# Altium integrated library Linear Technology Operational Amplifiers (LT1000).IntLib: 2280 symbols (part 45 of 79)
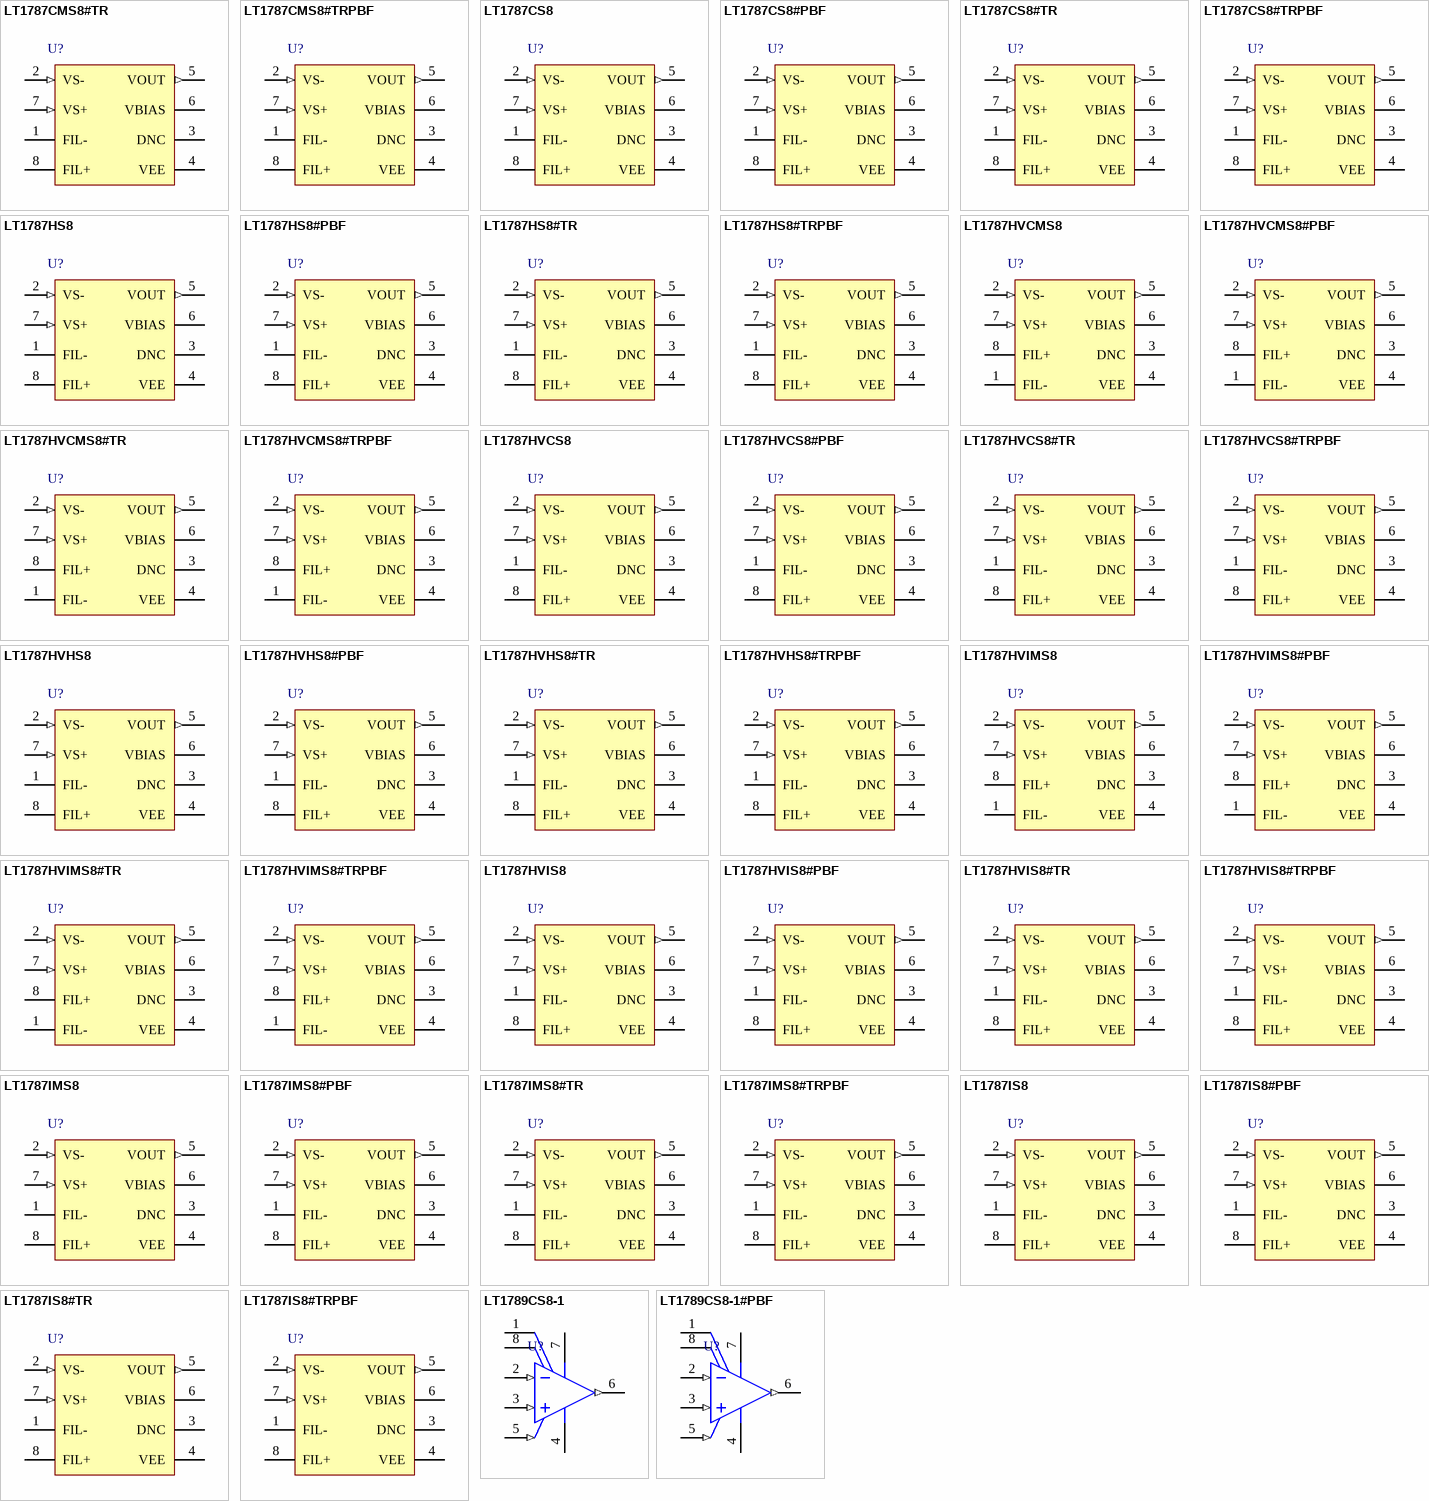
[diagram p149: symbols LT1787CMS8#TR to LT1789CS8-1#PBF]

## LT1787HVIS8#PBF
designator U?
Single Channel, High Side Current Sense, 60 V Supply Operation, Precision Operational Amplifier, 0.115 MHz Typical GBW, 2.5 to 60 V, 8-Pin SOIC (S8-8), Industrial, Pb-Free; Linear Technology Part Number: LT1787HV; Manufacturer: Linear Technology; PartNumber: LT1787HVIS8#PBF; Channels (#): 1; GBW (MHz) Typical: 0.115; Is (mA) Typical: 0.06; Vos (mV) Guaranteed: 0.075; Vos (mV) Typical: 0.04; Vs Max (V): 60; Vs Min (V): 2.5; DatasheetVersion: Rev. C; PackageVersion: Rev G; PackageReference: LT-S8-8; PackageDescription: 8-Pin Plastic Small Outline, Body 4.9 x 3.9 mm, Pitch 1.27 mm; Supplier 1: Digi-Key; Supplier Part Number 1: LT1787HVIS8#PBF-ND; Supplier 2: Farnell; Supplier Part Number 2: 1627568; Supplier 3: Newark; Supplier Part Number 3: 57M6459; RoHS: Pb-Free; Type: CSA; Mounting Technology: Surface Mount; ComponentLink1Description: Manufacturer URL; ComponentLink1URL: http://www.linear.com/; ComponentLink2Description: Datasheet; ComponentLink2URL: http://cds.linear.com/docs/en/datasheet/1787fc.pdf; ComponentLink3Description: Package Specification; ComponentLink3URL: http://cds.linear.com/docs/en/packaging/05081610_G_SO8.pdf
footprint LT-S8-8_N (SOIC, 8-Leads, Body 4.9x3.9mm, Pitch 1.27mm, IPC Medium Density)
footprint LT-S8-8_L (SOIC, 8-Leads, Body 4.9x3.9mm, Pitch 1.27mm, IPC High Density)
footprint LT-S8-8_M (SOIC, 8-Leads, Body 4.9x3.9mm, Pitch 1.27mm, IPC Low Density)
pins: 1 FIL- "Negative and Positive Filter Terminal. Differential mode noise can be filtered by connecting a capacitor across FIL- and FIL+. Pole frequency f-3dB = 1/(2pRC), R = 1.25k ohm.", 2 VS- (in) "Negative Input Sense Terminal. Negative sense voltage will result in an output sinking current proportional to the sense current. VS- is connected to an internal gain-setting resistor RG1A and supplies bias current to the (See Datasheet)", 3 DNC "Do Not Connect. Connected internally. Do not connect external circuitry to this pin.", 4 VEE (power) "Negative Supply or Ground for Single Supply Operation.", 5 VOUT (out) "Voltage Output or Current Output proportional to the magnitude of the sense current flowing through RSENSE. For bidirectional current sensing operation, VOUT = AV • VSENSE + VOUT(O) + VBIAS,where: VOUT > VBIAS for VS + > VS (See Datasheet)", 6 VBIAS "Output Bias Pin. For single supply, bidirectional current sensing operation, VBIAS is connected to an external bias voltage, so that at VSENSE = 0V, VOUT = VOUT(O) + VBIAS. For dual supply, bidirectional current sensing (See Datasheet)", 7 VS+ (in) "Positive Input Sense Terminal. Positive sense voltage will result in an output sourcing current proportional to the sense current. VS + is connected to an internal gain-setting resistor RG2A. Connecting a supply to VS + and (See Datasheet)", 8 FIL+ "Negative and Positive Filter Terminal. Differential mode noise can be filtered by connecting a capacitor across FIL- and FIL+. Pole frequency f-3dB = 1/(2pRC), R = 1.25k ohm."

## LT1787HVIS8#TR
designator U?
Single Channel, High Side Current Sense, 60 V Supply Operation, Precision Operational Amplifier, 0.115 MHz Typical GBW, 2.5 to 60 V, 8-Pin SOIC (S8-8), Industrial, Reel; Linear Technology Part Number: LT1787HV; Manufacturer: Linear Technology; PartNumber: LT1787HVIS8#TR; Channels (#): 1; GBW (MHz) Typical: 0.115; Is (mA) Typical: 0.06; Vos (mV) Guaranteed: 0.075; Vos (mV) Typical: 0.04; Vs Max (V): 60; Vs Min (V): 2.5; DatasheetVersion: Rev. C; PackageVersion: Rev G; PackageReference: LT-S8-8; PackageDescription: 8-Pin Plastic Small Outline, Body 4.9 x 3.9 mm, Pitch 1.27 mm; Supplier 1: Digi-Key; Supplier Part Number 1: LT1787HVIS8#TR-ND; Packing: Reel; Type: CSA; Mounting Technology: Surface Mount; ComponentLink1Description: Manufacturer URL; ComponentLink1URL: http://www.linear.com/; ComponentLink2Description: Datasheet; ComponentLink2URL: http://cds.linear.com/docs/en/datasheet/1787fc.pdf; ComponentLink3Description: Package Specification; ComponentLink3URL: http://cds.linear.com/docs/en/packaging/05081610_G_SO8.pdf
footprint LT-S8-8_N (SOIC, 8-Leads, Body 4.9x3.9mm, Pitch 1.27mm, IPC Medium Density)
footprint LT-S8-8_L (SOIC, 8-Leads, Body 4.9x3.9mm, Pitch 1.27mm, IPC High Density)
footprint LT-S8-8_M (SOIC, 8-Leads, Body 4.9x3.9mm, Pitch 1.27mm, IPC Low Density)
pins: 1 FIL- "Negative and Positive Filter Terminal. Differential mode noise can be filtered by connecting a capacitor across FIL- and FIL+. Pole frequency f-3dB = 1/(2pRC), R = 1.25k ohm.", 2 VS- (in) "Negative Input Sense Terminal. Negative sense voltage will result in an output sinking current proportional to the sense current. VS- is connected to an internal gain-setting resistor RG1A and supplies bias current to the (See Datasheet)", 3 DNC "Do Not Connect. Connected internally. Do not connect external circuitry to this pin.", 4 VEE (power) "Negative Supply or Ground for Single Supply Operation.", 5 VOUT (out) "Voltage Output or Current Output proportional to the magnitude of the sense current flowing through RSENSE. For bidirectional current sensing operation, VOUT = AV • VSENSE + VOUT(O) + VBIAS,where: VOUT > VBIAS for VS + > VS (See Datasheet)", 6 VBIAS "Output Bias Pin. For single supply, bidirectional current sensing operation, VBIAS is connected to an external bias voltage, so that at VSENSE = 0V, VOUT = VOUT(O) + VBIAS. For dual supply, bidirectional current sensing (See Datasheet)", 7 VS+ (in) "Positive Input Sense Terminal. Positive sense voltage will result in an output sourcing current proportional to the sense current. VS + is connected to an internal gain-setting resistor RG2A. Connecting a supply to VS + and (See Datasheet)", 8 FIL+ "Negative and Positive Filter Terminal. Differential mode noise can be filtered by connecting a capacitor across FIL- and FIL+. Pole frequency f-3dB = 1/(2pRC), R = 1.25k ohm."

## LT1787HVIS8#TRPBF
designator U?
Single Channel, High Side Current Sense, 60 V Supply Operation, Precision Operational Amplifier, 0.115 MHz Typical GBW, 2.5 to 60 V, 8-Pin SOIC (S8-8), Industrial, Pb-Free, Reel; Linear Technology Part Number: LT1787HV; Manufacturer: Linear Technology; PartNumber: LT1787HVIS8#TRPBF; Channels (#): 1; GBW (MHz) Typical: 0.115; Is (mA) Typical: 0.06; Vos (mV) Guaranteed: 0.075; Vos (mV) Typical: 0.04; Vs Max (V): 60; Vs Min (V): 2.5; DatasheetVersion: Rev. C; PackageVersion: Rev G; PackageReference: LT-S8-8; PackageDescription: 8-Pin Plastic Small Outline, Body 4.9 x 3.9 mm, Pitch 1.27 mm; Supplier 1: Digi-Key; Supplier Part Number 1: LT1787HVIS8#TRPBF-ND; Packing: Reel; RoHS: Pb-Free; Type: CSA; Mounting Technology: Surface Mount; ComponentLink1Description: Manufacturer URL; ComponentLink1URL: http://www.linear.com/; ComponentLink2Description: Datasheet; ComponentLink2URL: http://cds.linear.com/docs/en/datasheet/1787fc.pdf; ComponentLink3Description: Package Specification; ComponentLink3URL: http://cds.linear.com/docs/en/packaging/05081610_G_SO8.pdf
footprint LT-S8-8_N (SOIC, 8-Leads, Body 4.9x3.9mm, Pitch 1.27mm, IPC Medium Density)
footprint LT-S8-8_L (SOIC, 8-Leads, Body 4.9x3.9mm, Pitch 1.27mm, IPC High Density)
footprint LT-S8-8_M (SOIC, 8-Leads, Body 4.9x3.9mm, Pitch 1.27mm, IPC Low Density)
pins: 1 FIL- "Negative and Positive Filter Terminal. Differential mode noise can be filtered by connecting a capacitor across FIL- and FIL+. Pole frequency f-3dB = 1/(2pRC), R = 1.25k ohm.", 2 VS- (in) "Negative Input Sense Terminal. Negative sense voltage will result in an output sinking current proportional to the sense current. VS- is connected to an internal gain-setting resistor RG1A and supplies bias current to the (See Datasheet)", 3 DNC "Do Not Connect. Connected internally. Do not connect external circuitry to this pin.", 4 VEE (power) "Negative Supply or Ground for Single Supply Operation.", 5 VOUT (out) "Voltage Output or Current Output proportional to the magnitude of the sense current flowing through RSENSE. For bidirectional current sensing operation, VOUT = AV • VSENSE + VOUT(O) + VBIAS,where: VOUT > VBIAS for VS + > VS (See Datasheet)", 6 VBIAS "Output Bias Pin. For single supply, bidirectional current sensing operation, VBIAS is connected to an external bias voltage, so that at VSENSE = 0V, VOUT = VOUT(O) + VBIAS. For dual supply, bidirectional current sensing (See Datasheet)", 7 VS+ (in) "Positive Input Sense Terminal. Positive sense voltage will result in an output sourcing current proportional to the sense current. VS + is connected to an internal gain-setting resistor RG2A. Connecting a supply to VS + and (See Datasheet)", 8 FIL+ "Negative and Positive Filter Terminal. Differential mode noise can be filtered by connecting a capacitor across FIL- and FIL+. Pole frequency f-3dB = 1/(2pRC), R = 1.25k ohm."

## LT1787IMS8
designator U?
Single Channel, Precision High Side Current Sense Amplifier, 0.115 MHz Typical GBW, 2.5 to 36 V, 8-Pin SOP (MS8-8), Industrial; Linear Technology Part Number: LT1787; Manufacturer: Linear Technology; PartNumber: LT1787IMS8; Channels (#): 1; GBW (MHz) Typical: 0.115; Is (mA) Typical: 0.06; Vos (mV) Guaranteed: 0.075; Vos (mV) Typical: 0.04; Vs Max (V): 36; Vs Min (V): 2.5; DatasheetVersion: Rev. C; PackageVersion: Rev G; PackageReference: LT-MS8-8; PackageDescription: 8-Lead Plastic Small Outline, Body 3.9 x 4.9 mm, Pitch 1.27 mm; Supplier 1: Digi-Key; Supplier Part Number 1: LT1787IMS8-ND; Supplier 2: Newark; Supplier Part Number 2: 57M6462; Type: CSA; Mounting Technology: Surface Mount; ComponentLink1Description: Manufacturer URL; ComponentLink1URL: http://www.linear.com/; ComponentLink2Description: Datasheet; ComponentLink2URL: http://cds.linear.com/docs/en/datasheet/1787fc.pdf; ComponentLink3Description: Package Specification; ComponentLink3URL: http://cds.linear.com/docs/en/packaging/05081610_G_SO8.pdf
footprint LT-MS8-8_N (SOP, 8-Leads, Body 3x3mm, Pitch 0.65mm, IPC Medium Density)
footprint LT-MS8-8_L (SOP, 8-Leads, Body 3x3mm, Pitch 0.65mm, IPC High Density)
footprint LT-MS8-8_M (SOP, 8-Leads, Body 3x3mm, Pitch 0.65mm, IPC Low Density)
pins: 1 FIL- "Negative and Positive Filter Terminals. Differential mode noise can be filtered by connecting a capacitor across FIL- and FIL+. Pole frequency f_3dB = 1/(2pRC), R = 1.25k ohm.", 2 VS- (in) "Negative Input Sense Terminal. Negative sense voltage will result in an output sinking current proportional to the sense current. VS- is connected to an internal gain-setting resistor RG1A and supplies bias current to the (See Datasheet)", 3 DNC "Do Not Connect. Connected internally. Do not connect external circuitry to this pin.", 4 VEE (power) "Negative Supply or Ground for Single Supply Operation.", 5 VOUT (out) "Voltage Output or Current Output proportional to the magnitude of the sense current flowing through RSENSE. For bidirectional current sensing operation, VOUT = AV * VSENSE + VOUT(O) + VBIAS,where: VOUT > VBIAS for VS + > VS- (See Datasheet)", 6 VBIAS "Output Bias Pin. For single supply, bidirectional current sensing operation, VBIAS is connected to an external bias voltage, so that at VSENSE = 0V, VOUT = VOUT(O) + VBIAS. For dual supply, bidirectional current sensing (See Datasheet)", 7 VS+ (in) "Positive Input Sense Terminal. Positive sense voltage will result in an output sourcing current proportional to the sense current. VS + is connected to an internal gain-setting resistor RG2A. Connecting a supply to VS + and (See Datasheet)", 8 FIL+ "Negative and Positive Filter Terminals. Differential mode noise can be filtered by connecting a capacitor across FIL- and FIL+. Pole frequency f_3dB = 1/(2pRC), R = 1.25k ohm."

## LT1787IMS8#PBF
designator U?
Single Channel, Precision High Side Current Sense Amplifier, 0.115 MHz Typical GBW, 2.5 to 36 V, 8-Pin SOP (MS8-8), Industrial, Pb-Free; Linear Technology Part Number: LT1787; Manufacturer: Linear Technology; PartNumber: LT1787IMS8#PBF; Channels (#): 1; GBW (MHz) Typical: 0.115; Is (mA) Typical: 0.06; Vos (mV) Guaranteed: 0.075; Vos (mV) Typical: 0.04; Vs Max (V): 36; Vs Min (V): 2.5; DatasheetVersion: Rev. C; PackageVersion: Rev G; PackageReference: LT-MS8-8; PackageDescription: 8-Lead Plastic Small Outline, Body 3.9 x 4.9 mm, Pitch 1.27 mm; Supplier 1: Digi-Key; Supplier Part Number 1: LT1787IMS8#PBF-ND; Supplier 2: Farnell; Supplier Part Number 2: 2254821; Supplier 3: Newark; Supplier Part Number 3: 57M6463; RoHS: Pb-Free; Type: CSA; Mounting Technology: Surface Mount; ComponentLink1Description: Manufacturer URL; ComponentLink1URL: http://www.linear.com/; ComponentLink2Description: Datasheet; ComponentLink2URL: http://cds.linear.com/docs/en/datasheet/1787fc.pdf; ComponentLink3Description: Package Specification; ComponentLink3URL: http://cds.linear.com/docs/en/packaging/05081610_G_SO8.pdf
footprint LT-MS8-8_N (SOP, 8-Leads, Body 3x3mm, Pitch 0.65mm, IPC Medium Density)
footprint LT-MS8-8_L (SOP, 8-Leads, Body 3x3mm, Pitch 0.65mm, IPC High Density)
footprint LT-MS8-8_M (SOP, 8-Leads, Body 3x3mm, Pitch 0.65mm, IPC Low Density)
pins: 1 FIL- "Negative and Positive Filter Terminals. Differential mode noise can be filtered by connecting a capacitor across FIL- and FIL+. Pole frequency f_3dB = 1/(2pRC), R = 1.25k ohm.", 2 VS- (in) "Negative Input Sense Terminal. Negative sense voltage will result in an output sinking current proportional to the sense current. VS- is connected to an internal gain-setting resistor RG1A and supplies bias current to the (See Datasheet)", 3 DNC "Do Not Connect. Connected internally. Do not connect external circuitry to this pin.", 4 VEE (power) "Negative Supply or Ground for Single Supply Operation.", 5 VOUT (out) "Voltage Output or Current Output proportional to the magnitude of the sense current flowing through RSENSE. For bidirectional current sensing operation, VOUT = AV * VSENSE + VOUT(O) + VBIAS,where: VOUT > VBIAS for VS + > VS- (See Datasheet)", 6 VBIAS "Output Bias Pin. For single supply, bidirectional current sensing operation, VBIAS is connected to an external bias voltage, so that at VSENSE = 0V, VOUT = VOUT(O) + VBIAS. For dual supply, bidirectional current sensing (See Datasheet)", 7 VS+ (in) "Positive Input Sense Terminal. Positive sense voltage will result in an output sourcing current proportional to the sense current. VS + is connected to an internal gain-setting resistor RG2A. Connecting a supply to VS + and (See Datasheet)", 8 FIL+ "Negative and Positive Filter Terminals. Differential mode noise can be filtered by connecting a capacitor across FIL- and FIL+. Pole frequency f_3dB = 1/(2pRC), R = 1.25k ohm."

## LT1787IMS8#TR
designator U?
Single Channel, Precision High Side Current Sense Amplifier, 0.115 MHz Typical GBW, 2.5 to 36 V, 8-Pin SOP (MS8-8), Industrial, Reel; Linear Technology Part Number: LT1787; Manufacturer: Linear Technology; PartNumber: LT1787IMS8#TR; Channels (#): 1; GBW (MHz) Typical: 0.115; Is (mA) Typical: 0.06; Vos (mV) Guaranteed: 0.075; Vos (mV) Typical: 0.04; Vs Max (V): 36; Vs Min (V): 2.5; DatasheetVersion: Rev. C; PackageVersion: Rev G; PackageReference: LT-MS8-8; PackageDescription: 8-Lead Plastic Small Outline, Body 3.9 x 4.9 mm, Pitch 1.27 mm; Supplier 1: Digi-Key; Supplier Part Number 1: LT1787IMS8#TR-ND; Packing: Reel; Type: CSA; Mounting Technology: Surface Mount; ComponentLink1Description: Manufacturer URL; ComponentLink1URL: http://www.linear.com/; ComponentLink2Description: Datasheet; ComponentLink2URL: http://cds.linear.com/docs/en/datasheet/1787fc.pdf; ComponentLink3Description: Package Specification; ComponentLink3URL: http://cds.linear.com/docs/en/packaging/05081610_G_SO8.pdf
footprint LT-MS8-8_N (SOP, 8-Leads, Body 3x3mm, Pitch 0.65mm, IPC Medium Density)
footprint LT-MS8-8_L (SOP, 8-Leads, Body 3x3mm, Pitch 0.65mm, IPC High Density)
footprint LT-MS8-8_M (SOP, 8-Leads, Body 3x3mm, Pitch 0.65mm, IPC Low Density)
pins: 1 FIL- "Negative and Positive Filter Terminals. Differential mode noise can be filtered by connecting a capacitor across FIL- and FIL+. Pole frequency f_3dB = 1/(2pRC), R = 1.25k ohm.", 2 VS- (in) "Negative Input Sense Terminal. Negative sense voltage will result in an output sinking current proportional to the sense current. VS- is connected to an internal gain-setting resistor RG1A and supplies bias current to the (See Datasheet)", 3 DNC "Do Not Connect. Connected internally. Do not connect external circuitry to this pin.", 4 VEE (power) "Negative Supply or Ground for Single Supply Operation.", 5 VOUT (out) "Voltage Output or Current Output proportional to the magnitude of the sense current flowing through RSENSE. For bidirectional current sensing operation, VOUT = AV * VSENSE + VOUT(O) + VBIAS,where: VOUT > VBIAS for VS + > VS- (See Datasheet)", 6 VBIAS "Output Bias Pin. For single supply, bidirectional current sensing operation, VBIAS is connected to an external bias voltage, so that at VSENSE = 0V, VOUT = VOUT(O) + VBIAS. For dual supply, bidirectional current sensing (See Datasheet)", 7 VS+ (in) "Positive Input Sense Terminal. Positive sense voltage will result in an output sourcing current proportional to the sense current. VS + is connected to an internal gain-setting resistor RG2A. Connecting a supply to VS + and (See Datasheet)", 8 FIL+ "Negative and Positive Filter Terminals. Differential mode noise can be filtered by connecting a capacitor across FIL- and FIL+. Pole frequency f_3dB = 1/(2pRC), R = 1.25k ohm."

## LT1787IMS8#TRPBF
designator U?
Single Channel, Precision High Side Current Sense Amplifier, 0.115 MHz Typical GBW, 2.5 to 36 V, 8-Pin SOP (MS8-8), Industrial, Pb-Free, Reel; Linear Technology Part Number: LT1787; Manufacturer: Linear Technology; PartNumber: LT1787IMS8#TRPBF; Channels (#): 1; GBW (MHz) Typical: 0.115; Is (mA) Typical: 0.06; Vos (mV) Guaranteed: 0.075; Vos (mV) Typical: 0.04; Vs Max (V): 36; Vs Min (V): 2.5; DatasheetVersion: Rev. C; PackageVersion: Rev G; PackageReference: LT-MS8-8; PackageDescription: 8-Lead Plastic Small Outline, Body 3.9 x 4.9 mm, Pitch 1.27 mm; Supplier 1: Digi-Key; Supplier Part Number 1: LT1787IMS8#TRPBF-ND; Packing: Reel; RoHS: Pb-Free; Type: CSA; Mounting Technology: Surface Mount; ComponentLink1Description: Manufacturer URL; ComponentLink1URL: http://www.linear.com/; ComponentLink2Description: Datasheet; ComponentLink2URL: http://cds.linear.com/docs/en/datasheet/1787fc.pdf; ComponentLink3Description: Package Specification; ComponentLink3URL: http://cds.linear.com/docs/en/packaging/05081610_G_SO8.pdf
footprint LT-MS8-8_N (SOP, 8-Leads, Body 3x3mm, Pitch 0.65mm, IPC Medium Density)
footprint LT-MS8-8_L (SOP, 8-Leads, Body 3x3mm, Pitch 0.65mm, IPC High Density)
footprint LT-MS8-8_M (SOP, 8-Leads, Body 3x3mm, Pitch 0.65mm, IPC Low Density)
pins: 1 FIL- "Negative and Positive Filter Terminals. Differential mode noise can be filtered by connecting a capacitor across FIL- and FIL+. Pole frequency f_3dB = 1/(2pRC), R = 1.25k ohm.", 2 VS- (in) "Negative Input Sense Terminal. Negative sense voltage will result in an output sinking current proportional to the sense current. VS- is connected to an internal gain-setting resistor RG1A and supplies bias current to the (See Datasheet)", 3 DNC "Do Not Connect. Connected internally. Do not connect external circuitry to this pin.", 4 VEE (power) "Negative Supply or Ground for Single Supply Operation.", 5 VOUT (out) "Voltage Output or Current Output proportional to the magnitude of the sense current flowing through RSENSE. For bidirectional current sensing operation, VOUT = AV * VSENSE + VOUT(O) + VBIAS,where: VOUT > VBIAS for VS + > VS- (See Datasheet)", 6 VBIAS "Output Bias Pin. For single supply, bidirectional current sensing operation, VBIAS is connected to an external bias voltage, so that at VSENSE = 0V, VOUT = VOUT(O) + VBIAS. For dual supply, bidirectional current sensing (See Datasheet)", 7 VS+ (in) "Positive Input Sense Terminal. Positive sense voltage will result in an output sourcing current proportional to the sense current. VS + is connected to an internal gain-setting resistor RG2A. Connecting a supply to VS + and (See Datasheet)", 8 FIL+ "Negative and Positive Filter Terminals. Differential mode noise can be filtered by connecting a capacitor across FIL- and FIL+. Pole frequency f_3dB = 1/(2pRC), R = 1.25k ohm."

## LT1787IS8
designator U?
Single Channel, Precision High Side Current Sense Amplifiers, 0.115 MHz Typical GBW, 2.5 to 36 V, 8-Pin SOIC (S8-8), Industrial; Linear Technology Part Number: LT1787; Manufacturer: Linear Technology; PartNumber: LT1787IS8; Channels (#): 1; GBW (MHz) Typical: 0.115; Is (mA) Typical: 0.06; Vos (mV) Guaranteed: 0.075; Vos (mV) Typical: 0.04; Vs Max (V): 36; Vs Min (V): 2.5; DatasheetVersion: Rev. C; PackageVersion: Rev G; PackageReference: LT-S8-8; PackageDescription: 8-Pin Plastic Small Outline, Body 4.9 x 3.9 mm, Pitch 1.27 mm; Supplier 1: Digi-Key; Supplier Part Number 1: LT1787IS8-ND; Supplier 2: Newark; Supplier Part Number 2: 57M6466; Type: CSA; Mounting Technology: Surface Mount; ComponentLink1Description: Manufacturer URL; ComponentLink1URL: http://www.linear.com/; ComponentLink2Description: Datasheet; ComponentLink2URL: http://cds.linear.com/docs/en/datasheet/1787fc.pdf; ComponentLink3Description: Package Specification; ComponentLink3URL: http://cds.linear.com/docs/en/packaging/05081610_G_SO8.pdf
footprint LT-S8-8_N (SOIC, 8-Leads, Body 4.9x3.9mm, Pitch 1.27mm, IPC Medium Density)
footprint LT-S8-8_L (SOIC, 8-Leads, Body 4.9x3.9mm, Pitch 1.27mm, IPC High Density)
footprint LT-S8-8_M (SOIC, 8-Leads, Body 4.9x3.9mm, Pitch 1.27mm, IPC Low Density)
pins: 1 FIL- "Negative and Positive Filter Terminals.Differential mode noise can be filtered by connecting a capacitor across FIL- and FIL+. Pole frequency f-3dB = 1/(2pRC), R = 1.25k ohm.", 2 VS- (in) "Negative Input Sense Terminal. Negative sense voltage will result in an output sinking current proportional to the sense current. VS- is connected to an internal gain-setting resistor RG1A and supplies bias current to the (See Datasheet)", 3 DNC "Do Not Connect. Connected internally. Do not connect external circuitry to this pin.", 4 VEE (power) "Negative Supply or Ground for Single Supply Operation.", 5 VOUT (out) "Voltage Output or Current Output proportional to the magnitude of the sense current flowing through RSENSE. For bidirectional current sensing operation,VOUT = AV • VSENSE + VOUT(O) + VBIAS,where:VOUT > VBIAS for VS+ > VS- (See Datasheet)", 6 VBIAS "Output Bias Pin. For single supply, bidirectional current sensing operation, VBIAS is connected to an external bias voltage, so that at VSENSE = 0V, VOUT = VOUT(O) + VBIAS. For dual supply, bidirectional current sensing (See Datasheet)", 7 VS+ (in) "Positive Input Sense Terminal. Positive sense voltage will result in an output sourcing current proportional to the sense current. VS+ is connected to an internal gain-setting resistor RG2A. Connecting a supply to VS+ and a (See Datasheet)", 8 FIL+ "Negative and Positive Filter Terminals.Differential mode noise can be filtered by connecting a capacitor across FIL- and FIL+. Pole frequency f-3dB = 1/(2pRC), R = 1.25k ohm."

## LT1787IS8#PBF
designator U?
Single Channel, Precision High Side Current Sense Amplifier, 0.115 MHz Typical GBW, 2.5 to 36 V, 8-Pin SOIC (S8-8), Industrial, Pb-Free; Linear Technology Part Number: LT1787; Manufacturer: Linear Technology; PartNumber: LT1787IS8#PBF; Channels (#): 1; GBW (MHz) Typical: 0.115; Is (mA) Typical: 0.06; Vos (mV) Guaranteed: 0.075; Vos (mV) Typical: 0.04; Vs Max (V): 36; Vs Min (V): 2.5; DatasheetVersion: Rev. C; PackageVersion: Rev G; PackageReference: LT-S8-8; PackageDescription: 8-Pin Plastic Small Outline, Body 4.9 x 3.9 mm, Pitch 1.27 mm; Supplier 1: Digi-Key; Supplier Part Number 1: LT1787IS8#PBF-ND; RoHS: Pb-Free; Type: CSA; Mounting Technology: Surface Mount; ComponentLink1Description: Manufacturer URL; ComponentLink1URL: http://www.linear.com/; ComponentLink2Description: Datasheet; ComponentLink2URL: http://cds.linear.com/docs/en/datasheet/1787fc.pdf; ComponentLink3Description: Package Specification; ComponentLink3URL: http://cds.linear.com/docs/en/packaging/05081610_G_SO8.pdf
footprint LT-S8-8_N (SOIC, 8-Leads, Body 4.9x3.9mm, Pitch 1.27mm, IPC Medium Density)
footprint LT-S8-8_L (SOIC, 8-Leads, Body 4.9x3.9mm, Pitch 1.27mm, IPC High Density)
footprint LT-S8-8_M (SOIC, 8-Leads, Body 4.9x3.9mm, Pitch 1.27mm, IPC Low Density)
pins: 1 FIL- "Negative and Positive Filter Terminals.Differential mode noise can be filtered by connecting a capacitor across FIL- and FIL+. Pole frequency f-3dB = 1/(2pRC), R = 1.25k ohm.", 2 VS- (in) "Negative Input Sense Terminal. Negative sense voltage will result in an output sinking current proportional to the sense current. VS- is connected to an internal gain-setting resistor RG1A and supplies bias current to the (See Datasheet)", 3 DNC "Do Not Connect. Connected internally. Do not connect external circuitry to this pin.", 4 VEE (power) "Negative Supply or Ground for Single Supply Operation.", 5 VOUT (out) "Voltage Output or Current Output proportional to the magnitude of the sense current flowing through RSENSE. For bidirectional current sensing operation,VOUT = AV • VSENSE + VOUT(O) + VBIAS,where:VOUT > VBIAS for VS+ > VS- (See Datasheet)", 6 VBIAS "Output Bias Pin. For single supply, bidirectional current sensing operation, VBIAS is connected to an external bias voltage, so that at VSENSE = 0V, VOUT = VOUT(O) + VBIAS. For dual supply, bidirectional current sensing (See Datasheet)", 7 VS+ (in) "Positive Input Sense Terminal. Positive sense voltage will result in an output sourcing current proportional to the sense current. VS+ is connected to an internal gain-setting resistor RG2A. Connecting a supply to VS+ and a (See Datasheet)", 8 FIL+ "Negative and Positive Filter Terminals.Differential mode noise can be filtered by connecting a capacitor across FIL- and FIL+. Pole frequency f-3dB = 1/(2pRC), R = 1.25k ohm."

## LT1787IS8#TR
designator U?
Single Channel, Precision High Side Current Sense Amplifier, 0.115 MHz Typical GBW, 2.5 to 36 V, 8-Pin SOIC (S8-8), Industrial, Reel; Linear Technology Part Number: LT1787; Manufacturer: Linear Technology; PartNumber: LT1787IS8#TR; Channels (#): 1; GBW (MHz) Typical: 0.115; Is (mA) Typical: 0.06; Vos (mV) Guaranteed: 0.075; Vos (mV) Typical: 0.04; Vs Max (V): 36; Vs Min (V): 2.5; DatasheetVersion: Rev. C; PackageVersion: Rev G; PackageReference: LT-S8-8; PackageDescription: 8-Pin Plastic Small Outline, Body 4.9 x 3.9 mm, Pitch 1.27 mm; Supplier 1: Digi-Key; Supplier Part Number 1: LT1787IS8#TR-ND; Packing: Reel; Type: CSA; Mounting Technology: Surface Mount; ComponentLink1Description: Manufacturer URL; ComponentLink1URL: http://www.linear.com/; ComponentLink2Description: Datasheet; ComponentLink2URL: http://cds.linear.com/docs/en/datasheet/1787fc.pdf; ComponentLink3Description: Package Specification; ComponentLink3URL: http://cds.linear.com/docs/en/packaging/05081610_G_SO8.pdf
footprint LT-S8-8_N (SOIC, 8-Leads, Body 4.9x3.9mm, Pitch 1.27mm, IPC Medium Density)
footprint LT-S8-8_L (SOIC, 8-Leads, Body 4.9x3.9mm, Pitch 1.27mm, IPC High Density)
footprint LT-S8-8_M (SOIC, 8-Leads, Body 4.9x3.9mm, Pitch 1.27mm, IPC Low Density)
pins: 1 FIL- "Negative and Positive Filter Terminals.Differential mode noise can be filtered by connecting a capacitor across FIL- and FIL+. Pole frequency f-3dB = 1/(2pRC), R = 1.25k ohm.", 2 VS- (in) "Negative Input Sense Terminal. Negative sense voltage will result in an output sinking current proportional to the sense current. VS- is connected to an internal gain-setting resistor RG1A and supplies bias current to the (See Datasheet)", 3 DNC "Do Not Connect. Connected internally. Do not connect external circuitry to this pin.", 4 VEE (power) "Negative Supply or Ground for Single Supply Operation.", 5 VOUT (out) "Voltage Output or Current Output proportional to the magnitude of the sense current flowing through RSENSE. For bidirectional current sensing operation,VOUT = AV • VSENSE + VOUT(O) + VBIAS,where:VOUT > VBIAS for VS+ > VS- (See Datasheet)", 6 VBIAS "Output Bias Pin. For single supply, bidirectional current sensing operation, VBIAS is connected to an external bias voltage, so that at VSENSE = 0V, VOUT = VOUT(O) + VBIAS. For dual supply, bidirectional current sensing (See Datasheet)", 7 VS+ (in) "Positive Input Sense Terminal. Positive sense voltage will result in an output sourcing current proportional to the sense current. VS+ is connected to an internal gain-setting resistor RG2A. Connecting a supply to VS+ and a (See Datasheet)", 8 FIL+ "Negative and Positive Filter Terminals.Differential mode noise can be filtered by connecting a capacitor across FIL- and FIL+. Pole frequency f-3dB = 1/(2pRC), R = 1.25k ohm."

## LT1787IS8#TRPBF
designator U?
Single Channel, Precision High Side Current Sense Amplifier, 0.115 MHz Typical GBW, 2.5 to 36 V, 8-Pin SOIC (S8-8), Industrial, Pb-Free, Reel; Linear Technology Part Number: LT1787; Manufacturer: Linear Technology; PartNumber: LT1787IS8#TRPBF; Channels (#): 1; GBW (MHz) Typical: 0.115; Is (mA) Typical: 0.06; Vos (mV) Guaranteed: 0.075; Vos (mV) Typical: 0.04; Vs Max (V): 36; Vs Min (V): 2.5; DatasheetVersion: Rev. C; PackageVersion: Rev G; PackageReference: LT-S8-8; PackageDescription: 8-Pin Plastic Small Outline, Body 4.9 x 3.9 mm, Pitch 1.27 mm; Supplier 1: Digi-Key; Supplier Part Number 1: LT1787IS8#TRPBF-ND; Supplier 2: Newark; Supplier Part Number 2: 14N8613; Packing: Reel; RoHS: Pb-Free; Type: CSA; Mounting Technology: Surface Mount; ComponentLink1Description: Manufacturer URL; ComponentLink1URL: http://www.linear.com/; ComponentLink2Description: Datasheet; ComponentLink2URL: http://cds.linear.com/docs/en/datasheet/1787fc.pdf; ComponentLink3Description: Package Specification; ComponentLink3URL: http://cds.linear.com/docs/en/packaging/05081610_G_SO8.pdf
footprint LT-S8-8_N (SOIC, 8-Leads, Body 4.9x3.9mm, Pitch 1.27mm, IPC Medium Density)
footprint LT-S8-8_L (SOIC, 8-Leads, Body 4.9x3.9mm, Pitch 1.27mm, IPC High Density)
footprint LT-S8-8_M (SOIC, 8-Leads, Body 4.9x3.9mm, Pitch 1.27mm, IPC Low Density)
pins: 1 FIL- "Negative and Positive Filter Terminals.Differential mode noise can be filtered by connecting a capacitor across FIL- and FIL+. Pole frequency f-3dB = 1/(2pRC), R = 1.25k ohm.", 2 VS- (in) "Negative Input Sense Terminal. Negative sense voltage will result in an output sinking current proportional to the sense current. VS- is connected to an internal gain-setting resistor RG1A and supplies bias current to the (See Datasheet)", 3 DNC "Do Not Connect. Connected internally. Do not connect external circuitry to this pin.", 4 VEE (power) "Negative Supply or Ground for Single Supply Operation.", 5 VOUT (out) "Voltage Output or Current Output proportional to the magnitude of the sense current flowing through RSENSE. For bidirectional current sensing operation,VOUT = AV • VSENSE + VOUT(O) + VBIAS,where:VOUT > VBIAS for VS+ > VS- (See Datasheet)", 6 VBIAS "Output Bias Pin. For single supply, bidirectional current sensing operation, VBIAS is connected to an external bias voltage, so that at VSENSE = 0V, VOUT = VOUT(O) + VBIAS. For dual supply, bidirectional current sensing (See Datasheet)", 7 VS+ (in) "Positive Input Sense Terminal. Positive sense voltage will result in an output sourcing current proportional to the sense current. VS+ is connected to an internal gain-setting resistor RG2A. Connecting a supply to VS+ and a (See Datasheet)", 8 FIL+ "Negative and Positive Filter Terminals.Differential mode noise can be filtered by connecting a capacitor across FIL- and FIL+. Pole frequency f-3dB = 1/(2pRC), R = 1.25k ohm."

## LT1789CS8-1
designator U?
Single Channel, Micropower, Single Supply Rail-to-Rail Output Instrumentation Amplifiers, 0.06 MHz Typical GBW, 0.026 V/us Typical SR, 2.2 to 36 V, 8-Pin SOIC (S8-8), Commercial; Linear Technology Part Number: LT1789-1; Manufacturer: Linear Technology; PartNumber: LT1789CS8-1; Channels (#): 1; GBW (MHz) Typical: 0.06; Is (mA) Typical: 0.067; SR (V/us) Typical: 0.026; Vos (mV) Guaranteed: 0.75; Vos (mV) Typical: 0.15; Vs Max (V): 36; Vs Min (V): 2.2; DatasheetVersion: Rev. C; PackageVersion: Rev G; PackageReference: LT-S8-8; PackageDescription: 8-Pin Plastic Small Outline, Body 4.9 x 3.9 mm, Pitch 1.27 mm; Supplier 1: Digi-Key; Supplier Part Number 1: LT1789CS8-1-ND; Type: IA; Mounting Technology: Surface Mount; ComponentLink1Description: Manufacturer URL; ComponentLink1URL: http://www.linear.com/; ComponentLink2Description: Datasheet; ComponentLink2URL: http://cds.linear.com/docs/en/datasheet/1789fc.pdf; ComponentLink3Description: Package Specification; ComponentLink3URL: http://cds.linear.com/docs/en/packaging/05081610_G_SO8.pdf
footprint LT-S8-8_N (SOIC, 8-Leads, Body 4.9x3.9mm, Pitch 1.27mm, IPC Medium Density)
footprint LT-S8-8_L (SOIC, 8-Leads, Body 4.9x3.9mm, Pitch 1.27mm, IPC High Density)
footprint LT-S8-8_M (SOIC, 8-Leads, Body 4.9x3.9mm, Pitch 1.27mm, IPC Low Density)
pins: 1 RG, 2 -IN (in), 3 +IN (in), 4 -VS (power), 5 REF (in), 6 OUT (out), 7 +VS (power), 8 RG

## LT1789CS8-1#PBF
designator U?
Single Channel, Micropower, Single Supply Rail-to-Rail Output Instrumentation Amplifiers, 0.06 MHz Typical GBW, 0.026 V/us Typical SR, 2.2 to 36 V, 8-Pin SOIC (S8-8), Commercial, Pb-Free; Linear Technology Part Number: LT1789-1; Manufacturer: Linear Technology; PartNumber: LT1789CS8-1#PBF; Channels (#): 1; GBW (MHz) Typical: 0.06; Is (mA) Typical: 0.067; SR (V/us) Typical: 0.026; Vos (mV) Guaranteed: 0.75; Vos (mV) Typical: 0.15; Vs Max (V): 36; Vs Min (V): 2.2; DatasheetVersion: Rev. C; PackageVersion: Rev G; PackageReference: LT-S8-8; PackageDescription: 8-Pin Plastic Small Outline, Body 4.9 x 3.9 mm, Pitch 1.27 mm; Supplier 1: Digi-Key; Supplier Part Number 1: LT1789CS8-1#PBF-ND; Supplier 2: Farnell; Supplier Part Number 2: 1663503; Supplier 3: Newark; Supplier Part Number 3: 57M6471; RoHS: Pb-Free; Type: IA; Mounting Technology: Surface Mount; ComponentLink1Description: Manufacturer URL; ComponentLink1URL: http://www.linear.com/; ComponentLink2Description: Datasheet; ComponentLink2URL: http://cds.linear.com/docs/en/datasheet/1789fc.pdf; ComponentLink3Description: Package Specification; ComponentLink3URL: http://cds.linear.com/docs/en/packaging/05081610_G_SO8.pdf
footprint LT-S8-8_N (SOIC, 8-Leads, Body 4.9x3.9mm, Pitch 1.27mm, IPC Medium Density)
footprint LT-S8-8_L (SOIC, 8-Leads, Body 4.9x3.9mm, Pitch 1.27mm, IPC High Density)
footprint LT-S8-8_M (SOIC, 8-Leads, Body 4.9x3.9mm, Pitch 1.27mm, IPC Low Density)
pins: 1 RG, 2 -IN (in), 3 +IN (in), 4 -VS (power), 5 REF (in), 6 OUT (out), 7 +VS (power), 8 RG

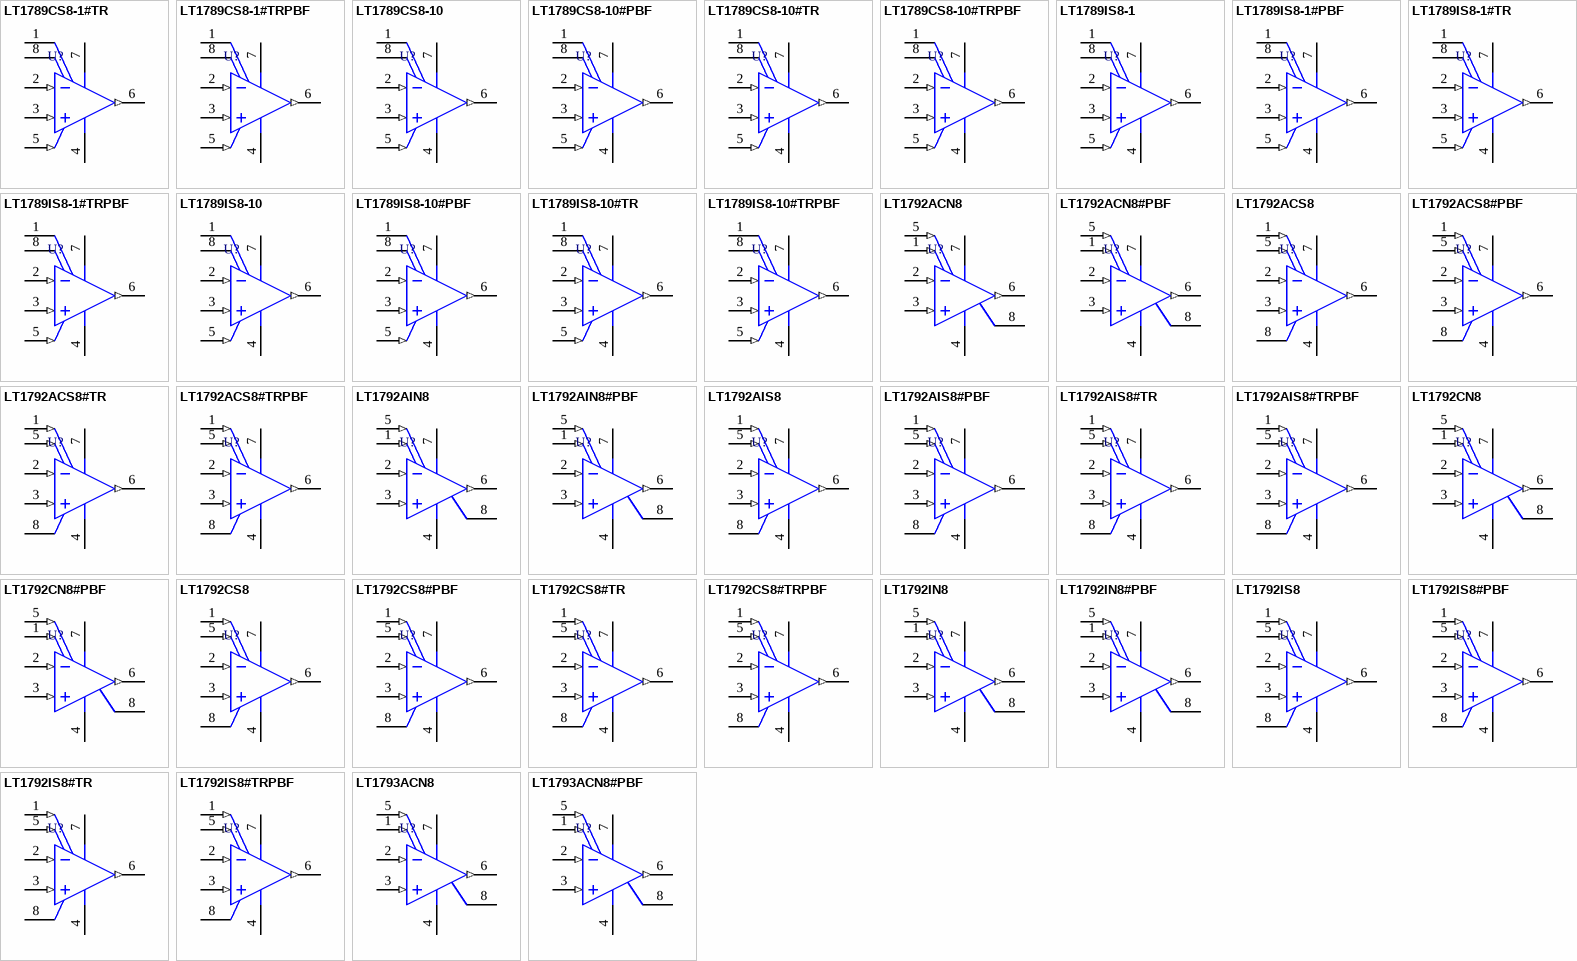
[diagram p72: symbols LT1789CS8-1#TR to LT1793ACN8#PBF]

## LT1789CS8-1#TR
designator U?
Single Channel, Micropower, Single Supply Rail-to-Rail Output Instrumentation Amplifiers, 0.06 MHz Typical GBW, 0.026 V/us Typical SR, 2.2 to 36 V, 8-Pin SOIC (S8-8), Commercial, Reel; Linear Technology Part Number: LT1789-1; Manufacturer: Linear Technology; PartNumber: LT1789CS8-1#TR; Channels (#): 1; GBW (MHz) Typical: 0.06; Is (mA) Typical: 0.067; SR (V/us) Typical: 0.026; Vos (mV) Guaranteed: 0.75; Vos (mV) Typical: 0.15; Vs Max (V): 36; Vs Min (V): 2.2; DatasheetVersion: Rev. C; PackageVersion: Rev G; PackageReference: LT-S8-8; PackageDescription: 8-Pin Plastic Small Outline, Body 4.9 x 3.9 mm, Pitch 1.27 mm; Supplier 1: Digi-Key; Supplier Part Number 1: LT1789CS8-1TR-ND; Packing: Reel; Type: IA; Mounting Technology: Surface Mount; ComponentLink1Description: Manufacturer URL; ComponentLink1URL: http://www.linear.com/; ComponentLink2Description: Datasheet; ComponentLink2URL: http://cds.linear.com/docs/en/datasheet/1789fc.pdf; ComponentLink3Description: Package Specification; ComponentLink3URL: http://cds.linear.com/docs/en/packaging/05081610_G_SO8.pdf
footprint LT-S8-8_N (SOIC, 8-Leads, Body 4.9x3.9mm, Pitch 1.27mm, IPC Medium Density)
footprint LT-S8-8_L (SOIC, 8-Leads, Body 4.9x3.9mm, Pitch 1.27mm, IPC High Density)
footprint LT-S8-8_M (SOIC, 8-Leads, Body 4.9x3.9mm, Pitch 1.27mm, IPC Low Density)
pins: 1 RG, 2 -IN (in), 3 +IN (in), 4 -VS (power), 5 REF (in), 6 OUT (out), 7 +VS (power), 8 RG

## LT1789CS8-1#TRPBF
designator U?
Single Channel, Micropower, Single Supply Rail-to-Rail Output Instrumentation Amplifiers, 0.06 MHz Typical GBW, 0.026 V/us Typical SR, 2.2 to 36 V, 8-Pin SOIC (S8-8), Commercial, Pb-Free, Reel; Linear Technology Part Number: LT1789-1; Manufacturer: Linear Technology; PartNumber: LT1789CS8-1#TRPBF; Channels (#): 1; GBW (MHz) Typical: 0.06; Is (mA) Typical: 0.067; SR (V/us) Typical: 0.026; Vos (mV) Guaranteed: 0.75; Vos (mV) Typical: 0.15; Vs Max (V): 36; Vs Min (V): 2.2; DatasheetVersion: Rev. C; PackageVersion: Rev G; PackageReference: LT-S8-8; PackageDescription: 8-Pin Plastic Small Outline, Body 4.9 x 3.9 mm, Pitch 1.27 mm; Supplier 1: Digi-Key; Supplier Part Number 1: LT1789CS8-1#TRPBF-ND; Supplier 2: Newark; Supplier Part Number 2: 57M6473; Packing: Reel; RoHS: Pb-Free; Type: IA; Mounting Technology: Surface Mount; ComponentLink1Description: Manufacturer URL; ComponentLink1URL: http://www.linear.com/; ComponentLink2Description: Datasheet; ComponentLink2URL: http://cds.linear.com/docs/en/datasheet/1789fc.pdf; ComponentLink3Description: Package Specification; ComponentLink3URL: http://cds.linear.com/docs/en/packaging/05081610_G_SO8.pdf
footprint LT-S8-8_N (SOIC, 8-Leads, Body 4.9x3.9mm, Pitch 1.27mm, IPC Medium Density)
footprint LT-S8-8_L (SOIC, 8-Leads, Body 4.9x3.9mm, Pitch 1.27mm, IPC High Density)
footprint LT-S8-8_M (SOIC, 8-Leads, Body 4.9x3.9mm, Pitch 1.27mm, IPC Low Density)
pins: 1 RG, 2 -IN (in), 3 +IN (in), 4 -VS (power), 5 REF (in), 6 OUT (out), 7 +VS (power), 8 RG

## LT1789CS8-10
designator U?
Single Channel, Micropower, Single Supply Rail-to-Rail Output Instrumentation Amplifiers, 0.06 MHz Typical GBW, 0.026 V/us Typical SR, 2.2 to 36 V, 8-Pin SOIC (S8-8), Commercial; Linear Technology Part Number: LT1789-10; Manufacturer: Linear Technology; PartNumber: LT1789CS8-10; Channels (#): 1; GBW (MHz) Typical: 0.06; Is (mA) Typical: 0.067; SR (V/us) Typical: 0.026; Vos (mV) Guaranteed: 3; Vos (mV) Typical: 0.65; Vs Max (V): 36; Vs Min (V): 2.2; DatasheetVersion: Rev. C; PackageVersion: Rev G; PackageReference: LT-S8-8; PackageDescription: 8-Pin Plastic Small Outline, Body 4.9 x 3.9 mm, Pitch 1.27 mm; Supplier 1: Digi-Key; Supplier Part Number 1: LT1789CS8-10-ND; Type: IA; Mounting Technology: Surface Mount; ComponentLink1Description: Manufacturer URL; ComponentLink1URL: http://www.linear.com/; ComponentLink2Description: Datasheet; ComponentLink2URL: http://cds.linear.com/docs/en/datasheet/1789fc.pdf; ComponentLink3Description: Package Specification; ComponentLink3URL: http://cds.linear.com/docs/en/packaging/05081610_G_SO8.pdf
footprint LT-S8-8_N (SOIC, 8-Leads, Body 4.9x3.9mm, Pitch 1.27mm, IPC Medium Density)
footprint LT-S8-8_L (SOIC, 8-Leads, Body 4.9x3.9mm, Pitch 1.27mm, IPC High Density)
footprint LT-S8-8_M (SOIC, 8-Leads, Body 4.9x3.9mm, Pitch 1.27mm, IPC Low Density)
pins: 1 RG, 2 -IN (in), 3 +IN (in), 4 -VS (power), 5 REF (in), 6 OUT (out), 7 +VS (power), 8 RG

## LT1789CS8-10#PBF
designator U?
Single Channel, Micropower, Single Supply Rail-to-Rail Output Instrumentation Amplifiers, 0.06 MHz Typical GBW, 0.026 V/us Typical SR, 2.2 to 36 V, 8-Pin SOIC (S8-8), Commercial, Pb-Free; Linear Technology Part Number: LT1789-10; Manufacturer: Linear Technology; PartNumber: LT1789CS8-10#PBF; Channels (#): 1; GBW (MHz) Typical: 0.06; Is (mA) Typical: 0.067; SR (V/us) Typical: 0.026; Vos (mV) Guaranteed: 3; Vos (mV) Typical: 0.65; Vs Max (V): 36; Vs Min (V): 2.2; DatasheetVersion: Rev. C; PackageVersion: Rev G; PackageReference: LT-S8-8; PackageDescription: 8-Pin Plastic Small Outline, Body 4.9 x 3.9 mm, Pitch 1.27 mm; Supplier 1: Digi-Key; Supplier Part Number 1: LT1789CS8-10#PBF-ND; Supplier 2: Farnell; Supplier Part Number 2: 1663504; Supplier 3: Newark; Supplier Part Number 3: 57M6475; RoHS: Pb-Free; Type: IA; Mounting Technology: Surface Mount; ComponentLink1Description: Manufacturer URL; ComponentLink1URL: http://www.linear.com/; ComponentLink2Description: Datasheet; ComponentLink2URL: http://cds.linear.com/docs/en/datasheet/1789fc.pdf; ComponentLink3Description: Package Specification; ComponentLink3URL: http://cds.linear.com/docs/en/packaging/05081610_G_SO8.pdf
footprint LT-S8-8_N (SOIC, 8-Leads, Body 4.9x3.9mm, Pitch 1.27mm, IPC Medium Density)
footprint LT-S8-8_L (SOIC, 8-Leads, Body 4.9x3.9mm, Pitch 1.27mm, IPC High Density)
footprint LT-S8-8_M (SOIC, 8-Leads, Body 4.9x3.9mm, Pitch 1.27mm, IPC Low Density)
pins: 1 RG, 2 -IN (in), 3 +IN (in), 4 -VS (power), 5 REF (in), 6 OUT (out), 7 +VS (power), 8 RG

## LT1789CS8-10#TR
designator U?
Single Channel, Micropower, Single Supply Rail-to-Rail Output Instrumentation Amplifiers, 0.06 MHz Typical GBW, 0.026 V/us Typical SR, 2.2 to 36 V, 8-Pin SOIC (S8-8), Commercial, Reel; Linear Technology Part Number: LT1789-10; Manufacturer: Linear Technology; PartNumber: LT1789CS8-10#TR; Channels (#): 1; GBW (MHz) Typical: 0.06; Is (mA) Typical: 0.067; SR (V/us) Typical: 0.026; Vos (mV) Guaranteed: 3; Vos (mV) Typical: 0.65; Vs Max (V): 36; Vs Min (V): 2.2; DatasheetVersion: Rev. C; PackageVersion: Rev G; PackageReference: LT-S8-8; PackageDescription: 8-Pin Plastic Small Outline, Body 4.9 x 3.9 mm, Pitch 1.27 mm; Supplier 1: Digi-Key; Supplier Part Number 1: LT1789CS8-10#TR-ND; Packing: Reel; Type: IA; Mounting Technology: Surface Mount; ComponentLink1Description: Manufacturer URL; ComponentLink1URL: http://www.linear.com/; ComponentLink2Description: Datasheet; ComponentLink2URL: http://cds.linear.com/docs/en/datasheet/1789fc.pdf; ComponentLink3Description: Package Specification; ComponentLink3URL: http://cds.linear.com/docs/en/packaging/05081610_G_SO8.pdf
footprint LT-S8-8_N (SOIC, 8-Leads, Body 4.9x3.9mm, Pitch 1.27mm, IPC Medium Density)
footprint LT-S8-8_L (SOIC, 8-Leads, Body 4.9x3.9mm, Pitch 1.27mm, IPC High Density)
footprint LT-S8-8_M (SOIC, 8-Leads, Body 4.9x3.9mm, Pitch 1.27mm, IPC Low Density)
pins: 1 RG, 2 -IN (in), 3 +IN (in), 4 -VS (power), 5 REF (in), 6 OUT (out), 7 +VS (power), 8 RG

## LT1789CS8-10#TRPBF
designator U?
Single Channel, Micropower, Single Supply Rail-to-Rail Output Instrumentation Amplifiers, 0.06 MHz Typical GBW, 0.026 V/us Typical SR, 2.2 to 36 V, 8-Pin SOIC (S8-8), Commercial, Pb-Free, Reel; Linear Technology Part Number: LT1789-10; Manufacturer: Linear Technology; PartNumber: LT1789CS8-10#TRPBF; Channels (#): 1; GBW (MHz) Typical: 0.06; Is (mA) Typical: 0.067; SR (V/us) Typical: 0.026; Vos (mV) Guaranteed: 3; Vos (mV) Typical: 0.65; Vs Max (V): 36; Vs Min (V): 2.2; DatasheetVersion: Rev. C; PackageVersion: Rev G; PackageReference: LT-S8-8; PackageDescription: 8-Pin Plastic Small Outline, Body 4.9 x 3.9 mm, Pitch 1.27 mm; Supplier 1: Digi-Key; Supplier Part Number 1: LT1789CS8-10#TRPBF-ND; Supplier 2: Newark; Supplier Part Number 2: 57M6477; Packing: Reel; RoHS: Pb-Free; Type: IA; Mounting Technology: Surface Mount; ComponentLink1Description: Manufacturer URL; ComponentLink1URL: http://www.linear.com/; ComponentLink2Description: Datasheet; ComponentLink2URL: http://cds.linear.com/docs/en/datasheet/1789fc.pdf; ComponentLink3Description: Package Specification; ComponentLink3URL: http://cds.linear.com/docs/en/packaging/05081610_G_SO8.pdf
footprint LT-S8-8_N (SOIC, 8-Leads, Body 4.9x3.9mm, Pitch 1.27mm, IPC Medium Density)
footprint LT-S8-8_L (SOIC, 8-Leads, Body 4.9x3.9mm, Pitch 1.27mm, IPC High Density)
footprint LT-S8-8_M (SOIC, 8-Leads, Body 4.9x3.9mm, Pitch 1.27mm, IPC Low Density)
pins: 1 RG, 2 -IN (in), 3 +IN (in), 4 -VS (power), 5 REF (in), 6 OUT (out), 7 +VS (power), 8 RG

## LT1789IS8-1
designator U?
Single Channel, Micropower, Single Supply Rail-to-Rail Output Instrumentation Amplifiers, 0.06 MHz Typical GBW, 0.026 V/us Typical SR, 2.2 to 36 V, 8-Pin SOIC (S8-8), Industrial; Linear Technology Part Number: LT1789-1; Manufacturer: Linear Technology; PartNumber: LT1789IS8-1; Channels (#): 1; GBW (MHz) Typical: 0.06; Is (mA) Typical: 0.067; SR (V/us) Typical: 0.026; Vos (mV) Guaranteed: 0.75; Vos (mV) Typical: 0.15; Vs Max (V): 36; Vs Min (V): 2.2; DatasheetVersion: Rev. C; PackageVersion: Rev G; PackageReference: LT-S8-8; PackageDescription: 8-Pin Plastic Small Outline, Body 4.9 x 3.9 mm, Pitch 1.27 mm; Supplier 1: Digi-Key; Supplier Part Number 1: LT1789IS8-1-ND; Type: IA; Mounting Technology: Surface Mount; ComponentLink1Description: Manufacturer URL; ComponentLink1URL: http://www.linear.com/; ComponentLink2Description: Datasheet; ComponentLink2URL: http://cds.linear.com/docs/en/datasheet/1789fc.pdf; ComponentLink3Description: Package Specification; ComponentLink3URL: http://cds.linear.com/docs/en/packaging/05081610_G_SO8.pdf
footprint LT-S8-8_N (SOIC, 8-Leads, Body 4.9x3.9mm, Pitch 1.27mm, IPC Medium Density)
footprint LT-S8-8_L (SOIC, 8-Leads, Body 4.9x3.9mm, Pitch 1.27mm, IPC High Density)
footprint LT-S8-8_M (SOIC, 8-Leads, Body 4.9x3.9mm, Pitch 1.27mm, IPC Low Density)
pins: 1 RG, 2 -IN (in), 3 +IN (in), 4 -VS (power), 5 REF (in), 6 OUT (out), 7 +VS (power), 8 RG

## LT1789IS8-1#PBF
designator U?
Single Channel, Micropower, Single Supply Rail-to-Rail Output Instrumentation Amplifiers, 0.06 MHz Typical GBW, 0.026 V/us Typical SR, 2.2 to 36 V, 8-Pin SOIC (S8-8), Industrial, Pb-Free; Linear Technology Part Number: LT1789-1; Manufacturer: Linear Technology; PartNumber: LT1789IS8-1#PBF; Channels (#): 1; GBW (MHz) Typical: 0.06; Is (mA) Typical: 0.067; SR (V/us) Typical: 0.026; Vos (mV) Guaranteed: 0.75; Vos (mV) Typical: 0.15; Vs Max (V): 36; Vs Min (V): 2.2; DatasheetVersion: Rev. C; PackageVersion: Rev G; PackageReference: LT-S8-8; PackageDescription: 8-Pin Plastic Small Outline, Body 4.9 x 3.9 mm, Pitch 1.27 mm; Supplier 1: Digi-Key; Supplier Part Number 1: LT1789IS8-1#PBF-ND; Supplier 2: Farnell; Supplier Part Number 2: 2115800; Supplier 3: Newark; Supplier Part Number 3: 57M6479; RoHS: Pb-Free; Type: IA; Mounting Technology: Surface Mount; ComponentLink1Description: Manufacturer URL; ComponentLink1URL: http://www.linear.com/; ComponentLink2Description: Datasheet; ComponentLink2URL: http://cds.linear.com/docs/en/datasheet/1789fc.pdf; ComponentLink3Description: Package Specification; ComponentLink3URL: http://cds.linear.com/docs/en/packaging/05081610_G_SO8.pdf
footprint LT-S8-8_N (SOIC, 8-Leads, Body 4.9x3.9mm, Pitch 1.27mm, IPC Medium Density)
footprint LT-S8-8_L (SOIC, 8-Leads, Body 4.9x3.9mm, Pitch 1.27mm, IPC High Density)
footprint LT-S8-8_M (SOIC, 8-Leads, Body 4.9x3.9mm, Pitch 1.27mm, IPC Low Density)
pins: 1 RG, 2 -IN (in), 3 +IN (in), 4 -VS (power), 5 REF (in), 6 OUT (out), 7 +VS (power), 8 RG

## LT1789IS8-1#TR
designator U?
Single Channel, Micropower, Single Supply Rail-to-Rail Output Instrumentation Amplifiers, 0.06 MHz Typical GBW, 0.026 V/us Typical SR, 2.2 to 36 V, 8-Pin SOIC (S8-8), Industrial, Reel; Linear Technology Part Number: LT1789-1; Manufacturer: Linear Technology; PartNumber: LT1789IS8-1#TR; Channels (#): 1; GBW (MHz) Typical: 0.06; Is (mA) Typical: 0.067; SR (V/us) Typical: 0.026; Vos (mV) Guaranteed: 0.75; Vos (mV) Typical: 0.15; Vs Max (V): 36; Vs Min (V): 2.2; DatasheetVersion: Rev. C; PackageVersion: Rev G; PackageReference: LT-S8-8; PackageDescription: 8-Pin Plastic Small Outline, Body 4.9 x 3.9 mm, Pitch 1.27 mm; Supplier 1: Digi-Key; Supplier Part Number 1: LT1789IS8-1TR-ND; Packing: Reel; Type: IA; Mounting Technology: Surface Mount; ComponentLink1Description: Manufacturer URL; ComponentLink1URL: http://www.linear.com/; ComponentLink2Description: Datasheet; ComponentLink2URL: http://cds.linear.com/docs/en/datasheet/1789fc.pdf; ComponentLink3Description: Package Specification; ComponentLink3URL: http://cds.linear.com/docs/en/packaging/05081610_G_SO8.pdf
footprint LT-S8-8_N (SOIC, 8-Leads, Body 4.9x3.9mm, Pitch 1.27mm, IPC Medium Density)
footprint LT-S8-8_L (SOIC, 8-Leads, Body 4.9x3.9mm, Pitch 1.27mm, IPC High Density)
footprint LT-S8-8_M (SOIC, 8-Leads, Body 4.9x3.9mm, Pitch 1.27mm, IPC Low Density)
pins: 1 RG, 2 -IN (in), 3 +IN (in), 4 -VS (power), 5 REF (in), 6 OUT (out), 7 +VS (power), 8 RG

## LT1789IS8-1#TRPBF
designator U?
Single Channel, Micropower, Single Supply Rail-to-Rail Output Instrumentation Amplifiers, 0.06 MHz Typical GBW, 0.026 V/us Typical SR, 2.2 to 36 V, 8-Pin SOIC (S8-8), Industrial, Pb-Free, Reel; Linear Technology Part Number: LT1789-1; Manufacturer: Linear Technology; PartNumber: LT1789IS8-1#TRPBF; Channels (#): 1; GBW (MHz) Typical: 0.06; Is (mA) Typical: 0.067; SR (V/us) Typical: 0.026; Vos (mV) Guaranteed: 0.75; Vos (mV) Typical: 0.15; Vs Max (V): 36; Vs Min (V): 2.2; DatasheetVersion: Rev. C; PackageVersion: Rev G; PackageReference: LT-S8-8; PackageDescription: 8-Pin Plastic Small Outline, Body 4.9 x 3.9 mm, Pitch 1.27 mm; Supplier 1: Digi-Key; Supplier Part Number 1: LT1789IS8-1#TRPBF-ND; Supplier 2: Newark; Supplier Part Number 2: 57M6481; Packing: Reel; RoHS: Pb-Free; Type: IA; Mounting Technology: Surface Mount; ComponentLink1Description: Manufacturer URL; ComponentLink1URL: http://www.linear.com/; ComponentLink2Description: Datasheet; ComponentLink2URL: http://cds.linear.com/docs/en/datasheet/1789fc.pdf; ComponentLink3Description: Package Specification; ComponentLink3URL: http://cds.linear.com/docs/en/packaging/05081610_G_SO8.pdf
footprint LT-S8-8_N (SOIC, 8-Leads, Body 4.9x3.9mm, Pitch 1.27mm, IPC Medium Density)
footprint LT-S8-8_L (SOIC, 8-Leads, Body 4.9x3.9mm, Pitch 1.27mm, IPC High Density)
footprint LT-S8-8_M (SOIC, 8-Leads, Body 4.9x3.9mm, Pitch 1.27mm, IPC Low Density)
pins: 1 RG, 2 -IN (in), 3 +IN (in), 4 -VS (power), 5 REF (in), 6 OUT (out), 7 +VS (power), 8 RG